# Altium footprint library PA4309.334NLT.PcbLib: 1 footprints
Each footprint in its own frame and in the unit in brackets; x right, y up, seen from the top. Pads: shape width x height; smd on the part's side, far side on the other; paste and mask are expansions set on the pad; w line width, h text height; cw(c..) or ccw(c..) is an arc to the next point about the centre after c.
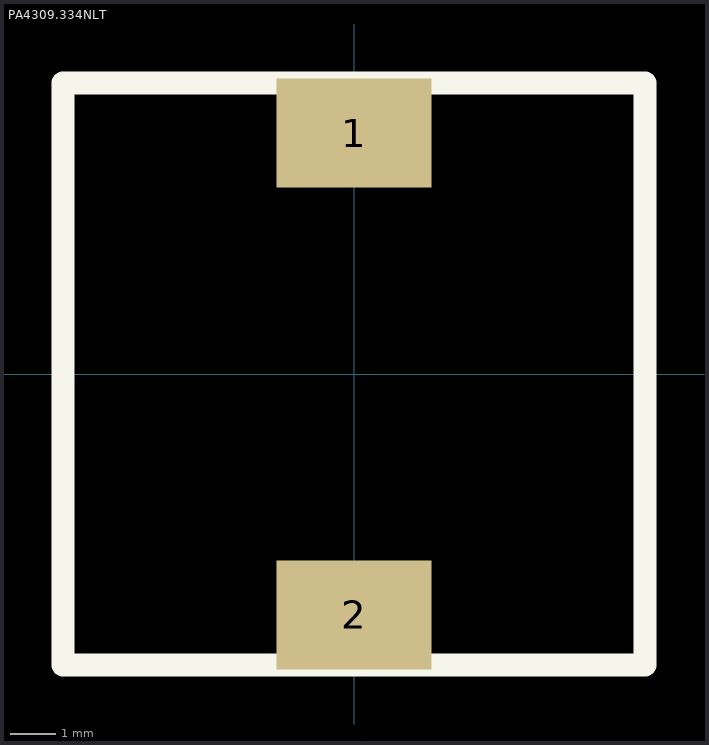
[diagram p0: the footprint, top view; thin cyan lines are the x and y axes]

## PA4309.334NLT [mm]
pads (2):
  rect 3.4x2.4 smd: 1(0,5.3) 2(0,-5.3)
Top Overlay:
  lines w0.5: -6.4,-6.4 6.4,-6.4 6.4,6.4 -6.4,6.4 -6.4,-6.4
3D body: height 7, standoff 0, extent -6.35,-6.477 6.35,6.35